# Altium footprint library con-phoenix-350.PCBLIB: 23 footprints (part 1 of 2)
Each footprint in its own frame and in the unit in brackets; x right, y up, seen from the top. Pads: shape width x height; smd on the part's side, far side on the other; paste and mask are expansions set on the pad; w line width, h text height; cw(c..) or ccw(c..) is an arc to the next point about the centre after c.
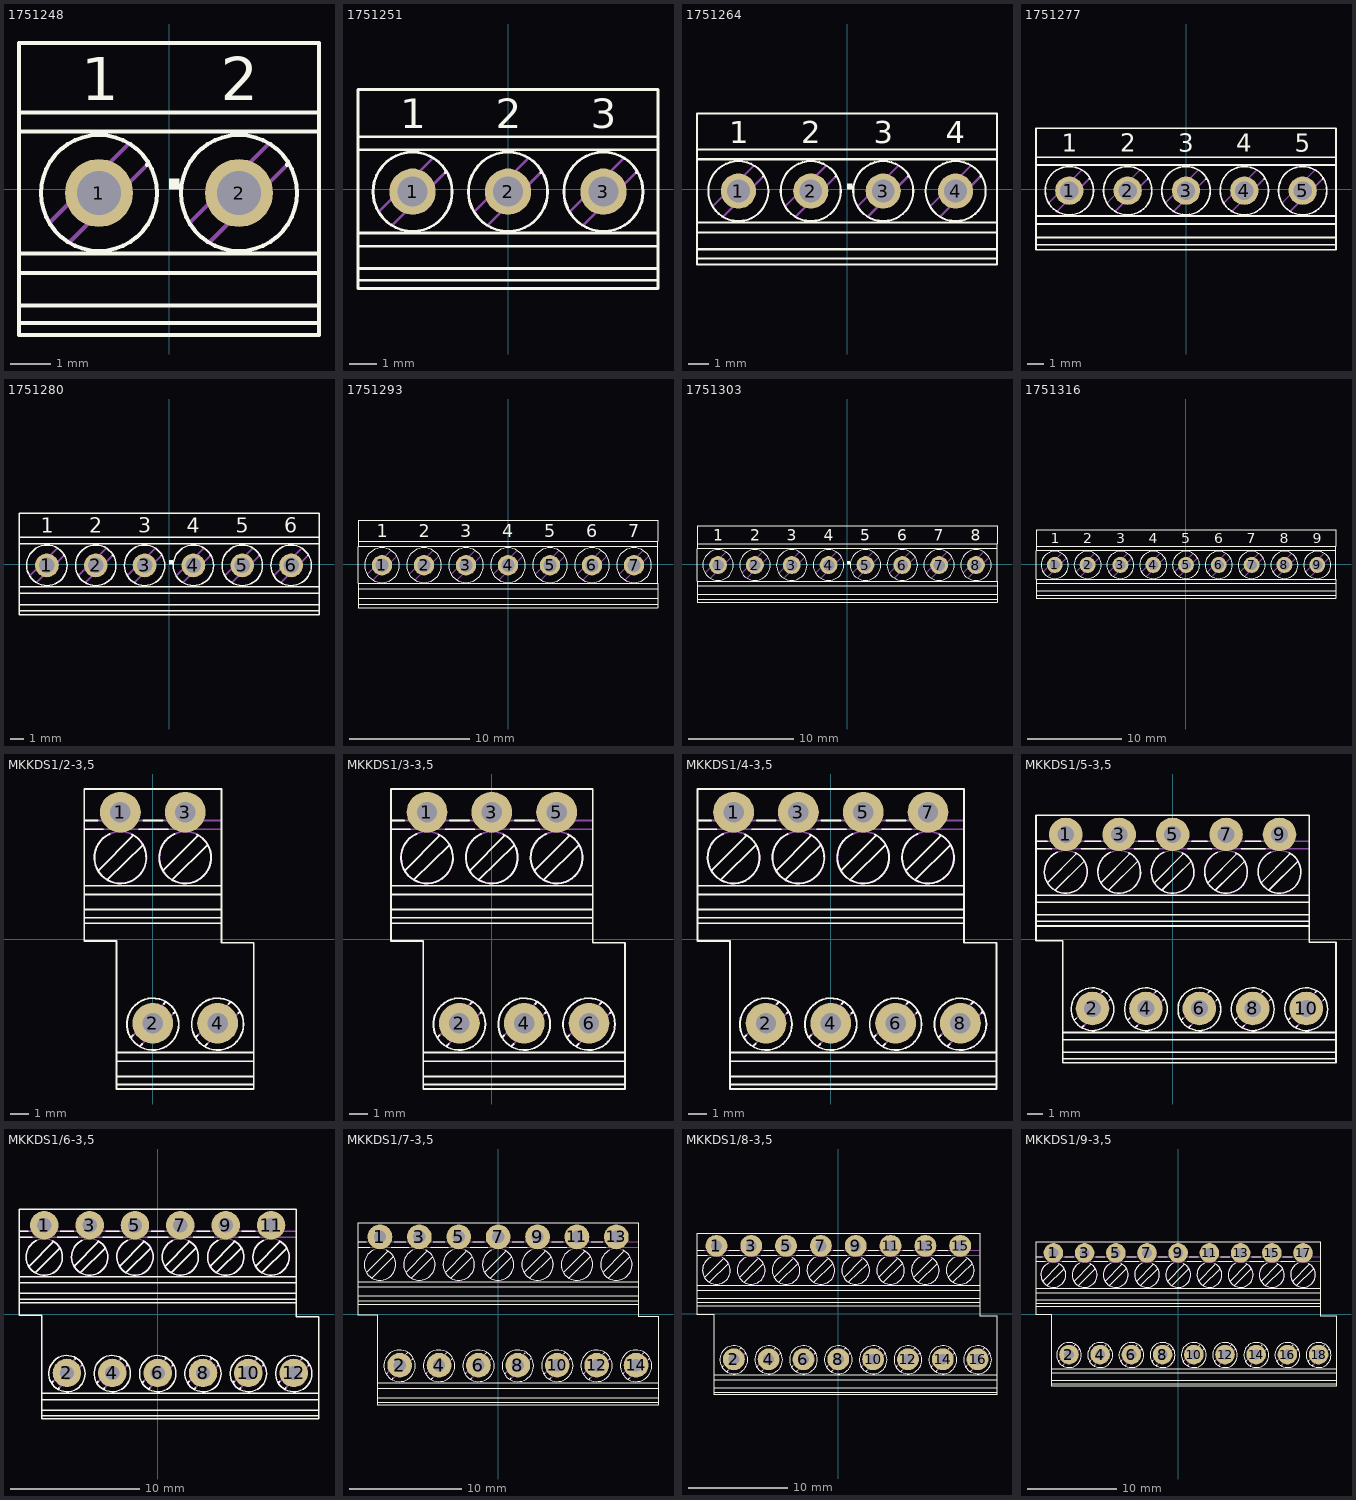
[diagram p0: the footprints below, top view; thin cyan lines are the x and y axes]

## 1751248 [mm]
pads (2):
  round 1.7 hole 1.1: 1(-1.75,-0.1) 2(1.75,-0.1)
Top Overlay:
  circle w0.102: c-1.75,-0.1 r1.45
  circle w0.102: c1.75,-0.1 r1.45
  region: 0,0 0.254,0 0.254,0.254 0,0.254
  lines w0.102: -0.55,0.605 -0.544,0.611 ; 2.95,0.605 2.956,0.611 ; -3.75,-3.35 3.75,-3.35 ; -3.75,-3.35 -3.75,-3.65 3.75,-3.65 3.75,-3.35 ; -3.75,-3.35 -3.75,-2.911 ; -3.75,-2.911 -3.75,-2.099 ; -3.75,-2.911 3.75,-2.911 ; -3.75,-2.099 3.75,-2.099 ; -3.75,-2.099 -3.75,-1.616 ; -3.75,-1.616 -3.75,1.437 ; -3.75,-1.616 3.75,-1.616 ; -3.75,1.437 -3.75,1.912 ; -3.75,1.437 3.75,1.437 ; -3.75,1.912 -3.75,3.65 3.75,3.65 3.75,1.912 ; -3.75,1.912 3.75,1.912 ; 3.75,-3.35 3.75,-2.911 ; 3.75,-2.911 3.75,-2.099 ; 3.75,-2.099 3.75,-1.616 ; 3.75,-1.616 3.75,1.437 ; 3.75,1.437 3.75,1.912
  text "1" at -2.2,2.222 h1.08
  text "2" at 1.293,2.222 h1.08
Mechanical 16:
  lines w0.102: -2.956,-0.811 -1.039,1.106 ; -2.461,-1.306 -0.55,0.605 ; 0.544,-0.811 2.461,1.106 ; 1.039,-1.306 2.95,0.605

## 1751251 [mm]
pads (3):
  round 1.7 hole 1.1: 1(-3.5,-0.1) 2(0,-0.1) 3(3.5,-0.1)
Top Overlay:
  circle w0.102: c-3.5,-0.1 r1.45
  circle w0.102: c0,-0.1 r1.45
  circle w0.102: c3.5,-0.1 r1.45
  region: 0,0 0.254,0 0.254,0.254 0,0.254
  lines w0.102: -2.3,0.605 -2.294,0.611 ; 1.2,0.605 1.206,0.611 ; 4.7,0.605 4.706,0.611 ; -5.5,-3.35 5.5,-3.35 ; -5.5,-3.35 -5.5,-3.65 5.5,-3.65 5.5,-3.35 ; -5.5,-3.35 -5.5,-2.911 ; -5.5,-2.911 -5.5,-2.099 ; -5.5,-2.911 5.5,-2.911 ; -5.5,-2.099 5.5,-2.099 ; -5.5,-2.099 -5.5,-1.616 ; -5.5,-1.616 -5.5,1.437 ; -5.5,-1.616 5.5,-1.616 ; -5.5,1.437 -5.5,1.912 ; -5.5,1.437 5.5,1.437 ; -5.5,1.912 -5.5,3.65 5.5,3.65 5.5,1.912 ; -5.5,1.912 5.5,1.912 ; 5.5,-3.35 5.5,-2.911 ; 5.5,-2.911 5.5,-2.099 ; 5.5,-2.099 5.5,-1.616 ; 5.5,-1.616 5.5,1.437 ; 5.5,1.437 5.5,1.912
  text "1" at -3.95,2.222 h1.08
  text "2" at -0.457,2.222 h1.08
  text "3" at 3.035,2.222 h1.08
Mechanical 16:
  lines w0.102: -4.706,-0.811 -2.789,1.106 ; -4.211,-1.306 -2.3,0.605 ; -1.206,-0.811 0.711,1.106 ; -0.711,-1.306 1.2,0.605 ; 2.294,-0.811 4.211,1.106 ; 2.789,-1.306 4.7,0.605

## 1751264 [mm]
pads (4):
  round 1.7 hole 1.1: 1(-5.25,-0.1) 2(-1.75,-0.1) 3(1.75,-0.1) 4(5.25,-0.1)
Top Overlay:
  circle w0.102: c-5.25,-0.1 r1.45
  circle w0.102: c-1.75,-0.1 r1.45
  circle w0.102: c1.75,-0.1 r1.45
  circle w0.102: c5.25,-0.1 r1.45
  region: 0,0 0.254,0 0.254,0.254 0,0.254
  lines w0.102: -4.05,0.605 -4.044,0.611 ; -0.55,0.605 -0.544,0.611 ; 2.95,0.605 2.956,0.611 ; 6.45,0.605 6.456,0.611 ; -7.25,-3.35 7.25,-3.35 ; -7.25,-3.35 -7.25,-3.65 7.25,-3.65 7.25,-3.35 ; -7.25,-3.35 -7.25,-2.911 ; -7.25,-2.911 -7.25,-2.099 ; -7.25,-2.911 7.25,-2.911 ; -7.25,-2.099 7.25,-2.099 ; -7.25,-2.099 -7.25,-1.616 ; -7.25,-1.616 -7.25,1.437 ; -7.25,-1.616 7.25,-1.616 ; -7.25,1.437 -7.25,1.912 ; -7.25,1.437 7.25,1.437 ; -7.25,1.912 -7.25,3.65 7.25,3.65 7.25,1.912 ; -7.25,1.912 7.25,1.912 ; 7.25,-3.35 7.25,-2.911 ; 7.25,-2.911 7.25,-2.099 ; 7.25,-2.099 7.25,-1.616 ; 7.25,-1.616 7.25,1.437 ; 7.25,1.437 7.25,1.912
  text "1" at -5.7,2.222 h1.08
  text "2" at -2.208,2.222 h1.08
  text "3" at 1.285,2.222 h1.08
  text "4" at 4.777,2.222 h1.08
Mechanical 16:
  lines w0.102: -6.456,-0.811 -4.539,1.106 ; -5.961,-1.306 -4.05,0.605 ; -2.956,-0.811 -1.039,1.106 ; -2.461,-1.306 -0.55,0.605 ; 0.544,-0.811 2.461,1.106 ; 1.039,-1.306 2.95,0.605 ; 4.044,-0.811 5.961,1.106 ; 4.539,-1.306 6.45,0.605

## 1751277 [mm]
pads (5):
  round 1.7 hole 1.1: 1(-7,-0.1) 2(-3.5,-0.1) 3(0,-0.1) 4(3.5,-0.1) 5(7,-0.1)
Top Overlay:
  circle w0.102: c-7,-0.1 r1.45
  circle w0.102: c-3.5,-0.1 r1.45
  circle w0.102: c0,-0.1 r1.45
  circle w0.102: c3.5,-0.1 r1.45
  circle w0.102: c7,-0.1 r1.45
  region: 0,0 0.254,0 0.254,0.254 0,0.254
  lines w0.102: -5.8,0.605 -5.794,0.611 ; -2.3,0.605 -2.294,0.611 ; 1.2,0.605 1.206,0.611 ; 4.7,0.605 4.706,0.611 ; 8.2,0.605 8.206,0.611 ; -9,-3.35 9,-3.35 ; -9,-3.35 -9,-3.65 9,-3.65 9,-3.35 ; -9,-3.35 -9,-2.911 ; -9,-2.911 -9,-2.099 ; -9,-2.911 9,-2.911 ; -9,-2.099 9,-2.099 ; -9,-2.099 -9,-1.616 ; -9,-1.616 -9,1.437 ; -9,-1.616 9,-1.616 ; -9,1.437 -9,1.912 ; -9,1.437 9,1.437 ; -9,1.912 -9,3.65 9,3.65 9,1.912 ; -9,1.912 9,1.912 ; 9,-3.35 9,-2.911 ; 9,-2.911 9,-2.099 ; 9,-2.099 9,-1.616 ; 9,-1.616 9,1.437 ; 9,1.437 9,1.912
  text "1" at -7.45,2.222 h1.08
  text "2" at -3.958,2.222 h1.08
  text "3" at -0.465,2.222 h1.08
  text "4" at 3.027,2.222 h1.08
  text "5" at 6.52,2.222 h1.08
Mechanical 16:
  lines w0.102: -8.206,-0.811 -6.289,1.106 ; -7.711,-1.306 -5.8,0.605 ; -4.706,-0.811 -2.789,1.106 ; -4.211,-1.306 -2.3,0.605 ; -1.206,-0.811 0.711,1.106 ; -0.711,-1.306 1.2,0.605 ; 2.294,-0.811 4.211,1.106 ; 2.789,-1.306 4.7,0.605 ; 5.794,-0.811 7.711,1.106 ; 6.289,-1.306 8.2,0.605

## 1751280 [mm]
pads (6):
  round 1.7 hole 1.1: 1(-8.75,-0.1) 2(-5.25,-0.1) 3(-1.75,-0.1) 4(1.75,-0.1) 5(5.25,-0.1) 6(8.75,-0.1)
Top Overlay:
  circle w0.102: c-8.75,-0.1 r1.45
  circle w0.102: c-5.25,-0.1 r1.45
  circle w0.102: c-1.75,-0.1 r1.45
  circle w0.102: c1.75,-0.1 r1.45
  circle w0.102: c5.25,-0.1 r1.45
  circle w0.102: c8.75,-0.1 r1.45
  region: 0,0 0.254,0 0.254,0.254 0,0.254
  lines w0.102: -7.55,0.605 -7.544,0.611 ; -4.05,0.605 -4.044,0.611 ; -0.55,0.605 -0.544,0.611 ; 2.95,0.605 2.956,0.611 ; 6.45,0.605 6.456,0.611 ; 9.95,0.605 9.956,0.611 ; -10.75,-3.35 10.75,-3.35 ; -10.75,-3.35 -10.75,-3.65 10.75,-3.65 10.75,-3.35 ; -10.75,-3.35 -10.75,-2.911 ; -10.75,-2.911 -10.75,-2.099 ; -10.75,-2.911 10.75,-2.911 ; -10.75,-2.099 10.75,-2.099 ; -10.75,-2.099 -10.75,-1.616 ; -10.75,-1.616 -10.75,1.437 ; -10.75,-1.616 10.75,-1.616 ; -10.75,1.437 -10.75,1.912 ; -10.75,1.437 10.75,1.437 ; -10.75,1.912 -10.75,3.65 10.75,3.65 10.75,1.912 ; -10.75,1.912 10.75,1.912 ; 10.75,-3.35 10.75,-2.911 ; 10.75,-2.911 10.75,-2.099 ; 10.75,-2.099 10.75,-1.616 ; 10.75,-1.616 10.75,1.437 ; 10.75,1.437 10.75,1.912
  text "1" at -9.2,2.222 h1.08
  text "2" at -5.707,2.222 h1.08
  text "3" at -2.215,2.222 h1.08
  text "4" at 1.278,2.222 h1.08
  text "5" at 4.77,2.222 h1.08
  text "6" at 8.263,2.222 h1.08
Mechanical 16:
  lines w0.102: -9.956,-0.811 -8.039,1.106 ; -9.461,-1.306 -7.55,0.605 ; -6.456,-0.811 -4.539,1.106 ; -5.961,-1.306 -4.05,0.605 ; -2.956,-0.811 -1.039,1.106 ; -2.461,-1.306 -0.55,0.605 ; 0.544,-0.811 2.461,1.106 ; 1.039,-1.306 2.95,0.605 ; 4.044,-0.811 5.961,1.106 ; 4.539,-1.306 6.45,0.605 ; 7.544,-0.811 9.461,1.106 ; 8.039,-1.306 9.95,0.605

## 1751293 [mm]
pads (7):
  round 1.7 hole 1.1: 1(-10.5,-0.1) 2(-7,-0.1) 3(-3.5,-0.1) 4(0,-0.1) 5(3.5,-0.1) 6(7,-0.1) 7(10.5,-0.1)
Top Overlay:
  circle w0.102: c-10.5,-0.1 r1.45
  circle w0.102: c-7,-0.1 r1.45
  circle w0.102: c-3.5,-0.1 r1.45
  circle w0.102: c0,-0.1 r1.45
  circle w0.102: c3.5,-0.1 r1.45
  circle w0.102: c7,-0.1 r1.45
  circle w0.102: c10.5,-0.1 r1.45
  region: 0,0 0.254,0 0.254,0.254 0,0.254
  lines w0.102: -9.3,0.605 -9.294,0.611 ; -5.8,0.605 -5.794,0.611 ; -2.3,0.605 -2.294,0.611 ; 1.2,0.605 1.206,0.611 ; 4.7,0.605 4.706,0.611 ; 8.2,0.605 8.206,0.611 ; 11.7,0.605 11.706,0.611 ; -12.5,-3.35 12.5,-3.35 ; -12.5,-3.35 -12.5,-3.65 12.5,-3.65 12.5,-3.35 ; -12.5,-3.35 -12.5,-2.911 ; -12.5,-2.911 -12.5,-2.099 ; -12.5,-2.911 12.5,-2.911 ; -12.5,-2.099 12.5,-2.099 ; -12.5,-2.099 -12.5,-1.616 ; -12.5,-1.616 -12.5,1.437 ; -12.5,-1.616 12.5,-1.616 ; -12.5,1.437 -12.5,1.912 ; -12.5,1.437 12.5,1.437 ; -12.5,1.912 -12.5,3.65 12.5,3.65 12.5,1.912 ; -12.5,1.912 12.5,1.912 ; 12.5,-3.35 12.5,-2.911 ; 12.5,-2.911 12.5,-2.099 ; 12.5,-2.099 12.5,-1.616 ; 12.5,-1.616 12.5,1.437 ; 12.5,1.437 12.5,1.912
  text "1" at -10.95,2.222 h1.08
  text "2" at -7.457,2.222 h1.08
  text "3" at -3.965,2.222 h1.08
  text "4" at -0.472,2.222 h1.08
  text "5" at 3.02,2.222 h1.08
  text "6" at 6.513,2.222 h1.08
  text "7" at 10.005,2.222 h1.08
Mechanical 16:
  lines w0.102: -11.706,-0.811 -9.789,1.106 ; -11.211,-1.306 -9.3,0.605 ; -8.206,-0.811 -6.289,1.106 ; -7.711,-1.306 -5.8,0.605 ; -4.706,-0.811 -2.789,1.106 ; -4.211,-1.306 -2.3,0.605 ; -1.206,-0.811 0.711,1.106 ; -0.711,-1.306 1.2,0.605 ; 2.294,-0.811 4.211,1.106 ; 2.789,-1.306 4.7,0.605 ; 5.794,-0.811 7.711,1.106 ; 6.289,-1.306 8.2,0.605 ; 9.294,-0.811 11.211,1.106 ; 9.789,-1.306 11.7,0.605

## 1751303 [mm]
pads (8):
  round 1.7 hole 1.1: 1(-12.25,-0.1) 2(-8.75,-0.1) 3(-5.25,-0.1) 4(-1.75,-0.1) 5(1.75,-0.1) 6(5.25,-0.1) 7(8.75,-0.1) 8(12.25,-0.1)
Top Overlay:
  circle w0.102: c-12.25,-0.1 r1.45
  circle w0.102: c-8.75,-0.1 r1.45
  circle w0.102: c-5.25,-0.1 r1.45
  circle w0.102: c-1.75,-0.1 r1.45
  circle w0.102: c1.75,-0.1 r1.45
  circle w0.102: c5.25,-0.1 r1.45
  circle w0.102: c8.75,-0.1 r1.45
  circle w0.102: c12.25,-0.1 r1.45
  region: 0,0 0.254,0 0.254,0.254 0,0.254
  lines w0.102: -11.05,0.605 -11.044,0.611 ; -7.55,0.605 -7.544,0.611 ; -4.05,0.605 -4.044,0.611 ; -0.55,0.605 -0.544,0.611 ; 2.95,0.605 2.956,0.611 ; 6.45,0.605 6.456,0.611 ; 9.95,0.605 9.956,0.611 ; 13.45,0.605 13.456,0.611 ; -14.25,-3.35 14.25,-3.35 ; -14.25,-3.35 -14.25,-3.65 14.25,-3.65 14.25,-3.35 ; -14.25,-3.35 -14.25,-2.911 ; -14.25,-2.911 -14.25,-2.099 ; -14.25,-2.911 14.25,-2.911 ; -14.25,-2.099 14.25,-2.099 ; -14.25,-2.099 -14.25,-1.616 ; -14.25,-1.616 -14.25,1.437 ; -14.25,-1.616 14.25,-1.616 ; -14.25,1.437 -14.25,1.912 ; -14.25,1.437 14.25,1.437 ; -14.25,1.912 -14.25,3.65 14.25,3.65 14.25,1.912 ; -14.25,1.912 14.25,1.912 ; 14.25,-3.35 14.25,-2.911 ; 14.25,-2.911 14.25,-2.099 ; 14.25,-2.099 14.25,-1.616 ; 14.25,-1.616 14.25,1.437 ; 14.25,1.437 14.25,1.912
  text "1" at -12.7,2.222 h1.08
  text "2" at -9.207,2.222 h1.08
  text "3" at -5.715,2.222 h1.08
  text "4" at -2.222,2.222 h1.08
  text "5" at 1.27,2.222 h1.08
  text "6" at 4.763,2.222 h1.08
  text "7" at 8.255,2.222 h1.08
  text "8" at 11.747,2.222 h1.08
Mechanical 16:
  lines w0.102: -13.456,-0.811 -11.539,1.106 ; -12.961,-1.306 -11.05,0.605 ; -9.956,-0.811 -8.039,1.106 ; -9.461,-1.306 -7.55,0.605 ; -6.456,-0.811 -4.539,1.106 ; -5.961,-1.306 -4.05,0.605 ; -2.956,-0.811 -1.039,1.106 ; -2.461,-1.306 -0.55,0.605 ; 0.544,-0.811 2.461,1.106 ; 1.039,-1.306 2.95,0.605 ; 4.044,-0.811 5.961,1.106 ; 4.539,-1.306 6.45,0.605 ; 7.544,-0.811 9.461,1.106 ; 8.039,-1.306 9.95,0.605 ; 11.044,-0.811 12.961,1.106 ; 11.539,-1.306 13.45,0.605

## 1751316 [mm]
pads (9):
  round 1.7 hole 1.1: 1(-13.973,-0.1) 2(-10.472,-0.1) 3(-6.973,-0.1) 4(-3.472,-0.1) 5(0.027,-0.1) 6(3.528,-0.1) 7(7.027,-0.1) 8(10.528,-0.1) 9(14.027,-0.1)
Top Overlay:
  circle w0.102: c-13.973,-0.1 r1.45
  circle w0.102: c-10.472,-0.1 r1.45
  circle w0.102: c-6.973,-0.1 r1.45
  circle w0.102: c-3.472,-0.1 r1.45
  circle w0.102: c0.027,-0.1 r1.45
  circle w0.102: c3.528,-0.1 r1.45
  circle w0.102: c7.027,-0.1 r1.45
  circle w0.102: c10.528,-0.1 r1.45
  circle w0.102: c14.027,-0.1 r1.45
  region: 0,0 0.254,0 0.254,0.254 0,0.254
  lines w0.102: -12.772,0.605 -12.767,0.611 ; -9.273,0.605 -9.266,0.611 ; -5.772,0.605 -5.767,0.611 ; -2.273,0.605 -2.266,0.611 ; 1.228,0.605 1.233,0.611 ; 4.727,0.605 4.734,0.611 ; 8.228,0.605 8.233,0.611 ; 11.727,0.605 11.734,0.611 ; 15.228,0.605 15.233,0.611 ; -15.973,-3.35 16.027,-3.35 ; -15.973,-3.35 -15.973,-3.65 16.027,-3.65 16.027,-3.35 ; -15.973,-3.35 -15.973,-2.911 ; -15.973,-2.911 -15.973,-2.099 ; -15.973,-2.911 16.027,-2.911 ; -15.973,-2.099 16.027,-2.099 ; -15.973,-2.099 -15.973,-1.616 ; -15.973,-1.616 -15.973,1.437 ; -15.973,-1.616 16.027,-1.616 ; -15.973,1.437 -15.973,1.912 ; -15.973,1.437 16.027,1.437 ; -15.973,1.912 -15.973,3.65 16.027,3.65 16.027,1.912 ; -15.973,1.912 16.027,1.912 ; 16.027,-3.35 16.027,-2.911 ; 16.027,-2.911 16.027,-2.099 ; 16.027,-2.099 16.027,-1.616 ; 16.027,-1.616 16.027,1.437 ; 16.027,1.437 16.027,1.912
  text "1" at -14.423,2.222 h1.08
  text "2" at -10.93,2.222 h1.08
  text "3" at -7.438,2.222 h1.08
  text "4" at -3.945,2.222 h1.08
  text "5" at -0.453,2.222 h1.08
  text "6" at 3.04,2.222 h1.08
  text "7" at 6.533,2.222 h1.08
  text "8" at 10.025,2.222 h1.08
  text "9" at 13.525,2.222 h1.08
Mechanical 16:
  lines w0.102: -15.179,-0.811 -13.262,1.106 ; -14.683,-1.306 -12.772,0.605 ; -11.678,-0.811 -9.761,1.106 ; -11.184,-1.306 -9.273,0.605 ; -8.179,-0.811 -6.262,1.106 ; -7.683,-1.306 -5.772,0.605 ; -4.678,-0.811 -2.761,1.106 ; -4.183,-1.306 -2.273,0.605 ; -1.179,-0.811 0.738,1.106 ; -0.684,-1.306 1.228,0.605 ; 2.322,-0.811 4.238,1.106 ; 2.817,-1.306 4.727,0.605 ; 5.821,-0.811 7.739,1.106 ; 6.316,-1.306 8.228,0.605 ; 9.322,-0.811 11.238,1.106 ; 9.817,-1.306 11.727,0.605 ; 12.821,-0.811 14.739,1.106 ; 13.316,-1.306 15.228,0.605

## MKKDS1/2-3,5 [mm]
pads (4):
  round 2.2 hole 1.1: 1(-1.75,6.85) 2(0,-4.55) 3(1.75,6.85) 4(3.5,-4.55)
Top Overlay:
  circle w0.102: c0,-4.6 r1.401
  circle w0.102: c3.5,-4.6 r1.401
  lines w0.102: -3.675,5.925 -2.675,5.925 ; -3.675,6.4 -2.975,6.4 ; -3.65,0.85 3.675,0.85 ; -3.65,1.15 3.675,1.15 ; -3.65,1.6 3.675,1.6 ; -3.65,2.4 3.675,2.4 ; -3.65,2.875 3.675,2.875 ; -2.925,3.7 -1.075,5.575 ; -2.425,3.225 -0.55,5.075 ; -2.325,5.675 ccw(c-1.752,4.398) -1.125,5.65 ; -1.9,-7.85 5.425,-7.85 ; -1.9,-7.425 5.425,-7.425 ; -1.9,-6.6 5.425,-6.6 ; -1.9,-6.125 5.425,-6.125 ; -1.175,-5.3 -1.075,-5.2 ; -0.75,5.925 0.825,5.925 ; -0.675,-5.775 -0.575,-5.675 ; -0.5,6.4 0.525,6.4 ; 0.575,3.7 2.425,5.575 ; 0.6,-3.5 0.675,-3.425 ; 1.075,3.225 2.95,5.075 ; 1.125,-4 1.2,-3.925 ; 1.175,5.675 ccw(c1.748,4.399) 2.375,5.65 ; 2.325,-5.3 2.425,-5.2 ; 2.825,-5.775 2.925,-5.675 ; 4.1,-3.5 4.175,-3.425 ; 4.625,-4 4.7,-3.925 ; -3.7,-0.1 -3.7,8.1 3.7,8.1 3.7,-0.2 5.45,-0.2 5.45,-8.1 -1.95,-8.1 -1.95,-0.1 -3.7,-0.1
Mechanical 16:
  circle w0.102: c-1.75,4.4 r1.401
  circle w0.102: c1.75,4.4 r1.401
  lines w0.102: -3.675,5.925 3.65,5.925 ; -3.675,6.4 3.65,6.4 ; -1.175,-5.3 0.675,-3.425 ; -0.675,-5.775 1.2,-3.925 ; 2.325,-5.3 4.175,-3.425 ; 2.825,-5.775 4.7,-3.925

## MKKDS1/3-3,5 [mm]
pads (6):
  round 2.2 hole 1.1: 1(-3.5,6.85) 2(-1.75,-4.55) 3(0,6.85) 4(1.75,-4.55) 5(3.5,6.85) 6(5.25,-4.55)
Top Overlay:
  circle w0.102: c-1.75,-4.6 r1.401
  circle w0.102: c1.75,-4.6 r1.401
  circle w0.102: c5.25,-4.6 r1.401
  lines w0.102: -5.425,5.925 -4.425,5.925 ; -5.425,6.4 -4.725,6.4 ; -5.4,0.85 5.425,0.85 ; -5.4,1.15 5.425,1.15 ; -5.4,1.6 5.425,1.6 ; -5.4,2.4 5.425,2.4 ; -5.4,2.875 5.425,2.875 ; -4.675,3.7 -2.825,5.575 ; -4.175,3.225 -2.3,5.075 ; -4.075,5.675 ccw(c-3.501,4.399) -2.875,5.65 ; -3.65,-7.85 7.175,-7.85 ; -3.65,-7.425 7.175,-7.425 ; -3.65,-6.6 7.175,-6.6 ; -3.65,-6.125 7.175,-6.125 ; -2.925,-5.3 -2.825,-5.2 ; -2.5,5.925 -0.925,5.925 ; -2.425,-5.775 -2.325,-5.675 ; -2.25,6.4 -1.225,6.4 ; -1.175,3.7 0.675,5.575 ; -1.15,-3.5 -1.075,-3.425 ; -0.675,3.225 1.2,5.075 ; -0.625,-4 -0.55,-3.925 ; -0.575,5.675 ccw(c-0.001,4.398) 0.625,5.65 ; 0.575,-5.3 0.675,-5.2 ; 1,5.925 2.575,5.925 ; 1.075,-5.775 1.175,-5.675 ; 1.25,6.4 2.275,6.4 ; 2.325,3.7 4.175,5.575 ; 2.35,-3.5 2.425,-3.425 ; 2.825,3.225 4.7,5.075 ; 2.875,-4 2.95,-3.925 ; 2.925,5.675 ccw(c3.499,4.399) 4.125,5.65 ; 4.075,-5.3 4.175,-5.2 ; 4.575,-5.775 4.675,-5.675 ; 5.85,-3.5 5.925,-3.425 ; 6.375,-4 6.45,-3.925 ; -5.45,-0.1 -5.45,8.1 5.45,8.1 5.45,-0.2 7.2,-0.2 7.2,-8.1 -3.7,-8.1 -3.7,-0.1 -5.45,-0.1
Mechanical 16:
  circle w0.102: c-3.5,4.4 r1.401
  circle w0.102: c0,4.4 r1.401
  circle w0.102: c3.5,4.4 r1.401
  lines w0.102: -5.425,5.925 5.4,5.925 ; -5.425,6.4 5.4,6.4 ; -2.925,-5.3 -1.075,-3.425 ; -2.425,-5.775 -0.55,-3.925 ; 0.575,-5.3 2.425,-3.425 ; 1.075,-5.775 2.95,-3.925 ; 4.075,-5.3 5.925,-3.425 ; 4.575,-5.775 6.45,-3.925

## MKKDS1/4-3,5 [mm]
pads (8):
  round 2.2 hole 1.1: 1(-5.25,6.85) 2(-3.5,-4.55) 3(-1.75,6.85) 4(0,-4.55) 5(1.75,6.85) 6(3.5,-4.55) 7(5.25,6.85) 8(7,-4.55)
Top Overlay:
  circle w0.102: c-3.5,-4.6 r1.401
  circle w0.102: c0,-4.6 r1.401
  circle w0.102: c3.5,-4.6 r1.401
  circle w0.102: c7,-4.6 r1.401
  lines w0.102: -7.175,5.925 -6.175,5.925 ; -7.175,6.4 -6.475,6.4 ; -7.15,0.85 7.175,0.85 ; -7.15,1.15 7.175,1.15 ; -7.15,1.6 7.175,1.6 ; -7.15,2.4 7.175,2.4 ; -7.15,2.875 7.175,2.875 ; -6.425,3.7 -4.575,5.575 ; -5.925,3.225 -4.05,5.075 ; -5.825,5.675 ccw(c-5.252,4.399) -4.625,5.65 ; -5.4,-7.85 8.925,-7.85 ; -5.4,-7.425 8.925,-7.425 ; -5.4,-6.6 8.925,-6.6 ; -5.4,-6.125 8.925,-6.125 ; -4.675,-5.3 -4.575,-5.2 ; -4.25,5.925 -2.675,5.925 ; -4.175,-5.775 -4.075,-5.675 ; -4,6.4 -2.975,6.4 ; -2.925,3.7 -1.075,5.575 ; -2.9,-3.5 -2.825,-3.425 ; -2.425,3.225 -0.55,5.075 ; -2.375,-4 -2.3,-3.925 ; -2.325,5.675 ccw(c-1.752,4.398) -1.125,5.65 ; -1.175,-5.3 -1.075,-5.2 ; -0.75,5.925 0.825,5.925 ; -0.675,-5.775 -0.575,-5.675 ; -0.5,6.4 0.525,6.4 ; 0.575,3.7 2.425,5.575 ; 0.6,-3.5 0.675,-3.425 ; 1.075,3.225 2.95,5.075 ; 1.125,-4 1.2,-3.925 ; 1.175,5.675 ccw(c1.748,4.399) 2.375,5.65 ; 2.325,-5.3 2.425,-5.2 ; 2.75,5.925 4.325,5.925 ; 2.825,-5.775 2.925,-5.675 ; 3,6.4 4.025,6.4 ; 4.075,3.7 5.925,5.575 ; 4.1,-3.5 4.175,-3.425 ; 4.575,3.225 6.45,5.075 ; 4.625,-4 4.7,-3.925 ; 4.675,5.675 ccw(c5.249,4.399) 5.875,5.65 ; 5.825,-5.3 5.925,-5.2 ; 6.325,-5.775 6.425,-5.675 ; 7.6,-3.5 7.675,-3.425 ; 8.125,-4 8.2,-3.925 ; -7.2,-0.1 -7.2,8.1 7.2,8.1 7.2,-0.2 8.95,-0.2 8.95,-8.1 -5.45,-8.1 -5.45,-0.1 -7.2,-0.1
Mechanical 16:
  circle w0.102: c-5.25,4.4 r1.401
  circle w0.102: c-1.75,4.4 r1.401
  circle w0.102: c1.75,4.4 r1.401
  circle w0.102: c5.25,4.4 r1.401
  lines w0.102: -7.175,5.925 7.15,5.925 ; -7.175,6.4 7.15,6.4 ; -4.675,-5.3 -2.825,-3.425 ; -4.175,-5.775 -2.3,-3.925 ; -1.175,-5.3 0.675,-3.425 ; -0.675,-5.775 1.2,-3.925 ; 2.325,-5.3 4.175,-3.425 ; 2.825,-5.775 4.7,-3.925 ; 5.825,-5.3 7.675,-3.425 ; 6.325,-5.775 8.2,-3.925

## MKKDS1/5-3,5 [mm]
pads (10):
  round 2.2 hole 1.1: 1(-7,6.85) 2(-5.25,-4.55) 3(-3.5,6.85) 4(-1.75,-4.55) 5(0,6.85) 6(1.75,-4.55) 7(3.5,6.85) 8(5.25,-4.55) 9(7,6.85) 10(8.75,-4.55)
Top Overlay:
  circle w0.102: c-5.25,-4.6 r1.401
  circle w0.102: c-1.75,-4.6 r1.401
  circle w0.102: c1.75,-4.6 r1.401
  circle w0.102: c5.25,-4.6 r1.401
  circle w0.102: c8.75,-4.6 r1.401
  lines w0.102: -8.925,5.925 -7.925,5.925 ; -8.925,6.4 -8.225,6.4 ; -8.9,0.85 8.925,0.85 ; -8.9,1.15 8.925,1.15 ; -8.9,1.6 8.925,1.6 ; -8.9,2.4 8.925,2.4 ; -8.9,2.875 8.925,2.875 ; -8.175,3.7 -6.325,5.575 ; -7.675,3.225 -5.8,5.075 ; -7.575,5.675 ccw(c-7.001,4.398) -6.375,5.65 ; -7.15,-7.85 10.675,-7.85 ; -7.15,-7.425 10.675,-7.425 ; -7.15,-6.6 10.675,-6.6 ; -7.15,-6.125 10.675,-6.125 ; -6.425,-5.3 -6.325,-5.2 ; -6,5.925 -4.425,5.925 ; -5.925,-5.775 -5.825,-5.675 ; -5.75,6.4 -4.725,6.4 ; -4.675,3.7 -2.825,5.575 ; -4.65,-3.5 -4.575,-3.425 ; -4.175,3.225 -2.3,5.075 ; -4.125,-4 -4.05,-3.925 ; -4.075,5.675 ccw(c-3.501,4.399) -2.875,5.65 ; -2.925,-5.3 -2.825,-5.2 ; -2.5,5.925 -0.925,5.925 ; -2.425,-5.775 -2.325,-5.675 ; -2.25,6.4 -1.225,6.4 ; -1.175,3.7 0.675,5.575 ; -1.15,-3.5 -1.075,-3.425 ; -0.675,3.225 1.2,5.075 ; -0.625,-4 -0.55,-3.925 ; -0.575,5.675 ccw(c-0.001,4.398) 0.625,5.65 ; 0.575,-5.3 0.675,-5.2 ; 1,5.925 2.575,5.925 ; 1.075,-5.775 1.175,-5.675 ; 1.25,6.4 2.275,6.4 ; 2.325,3.7 4.175,5.575 ; 2.35,-3.5 2.425,-3.425 ; 2.825,3.225 4.7,5.075 ; 2.875,-4 2.95,-3.925 ; 2.925,5.675 ccw(c3.499,4.399) 4.125,5.65 ; 4.075,-5.3 4.175,-5.2 ; 4.5,5.925 6.075,5.925 ; 4.575,-5.775 4.675,-5.675 ; 4.75,6.4 5.775,6.4 ; 5.825,3.7 7.675,5.575 ; 5.85,-3.5 5.925,-3.425 ; 6.325,3.225 8.2,5.075 ; 6.375,-4 6.45,-3.925 ; 6.425,5.675 ccw(c6.999,4.398) 7.625,5.65 ; 7.575,-5.3 7.675,-5.2 ; 8.075,-5.775 8.175,-5.675 ; 9.35,-3.5 9.425,-3.425 ; 9.875,-4 9.95,-3.925 ; -8.95,-0.1 -8.95,8.1 8.95,8.1 8.95,-0.2 10.7,-0.2 10.7,-8.1 -7.2,-8.1 -7.2,-0.1 -8.95,-0.1
Mechanical 16:
  circle w0.102: c-7,4.4 r1.401
  circle w0.102: c-3.5,4.4 r1.401
  circle w0.102: c0,4.4 r1.401
  circle w0.102: c3.5,4.4 r1.401
  circle w0.102: c7,4.4 r1.401
  lines w0.102: -8.925,5.925 8.9,5.925 ; -8.925,6.4 8.9,6.4 ; -6.425,-5.3 -4.575,-3.425 ; -5.925,-5.775 -4.05,-3.925 ; -2.925,-5.3 -1.075,-3.425 ; -2.425,-5.775 -0.55,-3.925 ; 0.575,-5.3 2.425,-3.425 ; 1.075,-5.775 2.95,-3.925 ; 4.075,-5.3 5.925,-3.425 ; 4.575,-5.775 6.45,-3.925 ; 7.575,-5.3 9.425,-3.425 ; 8.075,-5.775 9.95,-3.925

## MKKDS1/6-3,5 [mm]
pads (12):
  round 2.2 hole 1.1: 1(-8.75,6.85) 2(-7,-4.55) 3(-5.25,6.85) 4(-3.5,-4.55) 5(-1.75,6.85) 6(0,-4.55) 7(1.75,6.85) 8(3.5,-4.55) 9(5.25,6.85) 10(7,-4.55) 11(8.75,6.85) 12(10.5,-4.55)
Top Overlay:
  circle w0.102: c-7,-4.6 r1.401
  circle w0.102: c-3.5,-4.6 r1.401
  circle w0.102: c0,-4.6 r1.401
  circle w0.102: c3.5,-4.6 r1.401
  circle w0.102: c7,-4.6 r1.401
  circle w0.102: c10.5,-4.6 r1.401
  lines w0.102: -10.675,5.925 -9.675,5.925 ; -10.675,6.4 -9.975,6.4 ; -10.65,0.85 10.675,0.85 ; -10.65,1.15 10.675,1.15 ; -10.65,1.6 10.675,1.6 ; -10.65,2.4 10.675,2.4 ; -10.65,2.875 10.675,2.875 ; -9.925,3.7 -8.075,5.575 ; -9.425,3.225 -7.55,5.075 ; -9.325,5.675 ccw(c-8.752,4.398) -8.125,5.65 ; -8.9,-7.85 12.425,-7.85 ; -8.9,-7.425 12.425,-7.425 ; -8.9,-6.6 12.425,-6.6 ; -8.9,-6.125 12.425,-6.125 ; -8.175,-5.3 -8.075,-5.2 ; -7.75,5.925 -6.175,5.925 ; -7.675,-5.775 -7.575,-5.675 ; -7.5,6.4 -6.475,6.4 ; -6.425,3.7 -4.575,5.575 ; -6.4,-3.5 -6.325,-3.425 ; -5.925,3.225 -4.05,5.075 ; -5.875,-4 -5.8,-3.925 ; -5.825,5.675 ccw(c-5.252,4.399) -4.625,5.65 ; -4.675,-5.3 -4.575,-5.2 ; -4.25,5.925 -2.675,5.925 ; -4.175,-5.775 -4.075,-5.675 ; -4,6.4 -2.975,6.4 ; -2.925,3.7 -1.075,5.575 ; -2.9,-3.5 -2.825,-3.425 ; -2.425,3.225 -0.55,5.075 ; -2.375,-4 -2.3,-3.925 ; -2.325,5.675 ccw(c-1.752,4.398) -1.125,5.65 ; -1.175,-5.3 -1.075,-5.2 ; -0.75,5.925 0.825,5.925 ; -0.675,-5.775 -0.575,-5.675 ; -0.5,6.4 0.525,6.4 ; 0.575,3.7 2.425,5.575 ; 0.6,-3.5 0.675,-3.425 ; 1.075,3.225 2.95,5.075 ; 1.125,-4 1.2,-3.925 ; 1.175,5.675 ccw(c1.748,4.399) 2.375,5.65 ; 2.325,-5.3 2.425,-5.2 ; 2.75,5.925 4.325,5.925 ; 2.825,-5.775 2.925,-5.675 ; 3,6.4 4.025,6.4 ; 4.075,3.7 5.925,5.575 ; 4.1,-3.5 4.175,-3.425 ; 4.575,3.225 6.45,5.075 ; 4.625,-4 4.7,-3.925 ; 4.675,5.675 ccw(c5.249,4.399) 5.875,5.65 ; 5.825,-5.3 5.925,-5.2 ; 6.25,5.925 7.825,5.925 ; 6.325,-5.775 6.425,-5.675 ; 6.5,6.4 7.525,6.4 ; 7.575,3.7 9.425,5.575 ; 7.6,-3.5 7.675,-3.425 ; 8.075,3.225 9.95,5.075 ; 8.125,-4 8.2,-3.925 ; 8.175,5.675 ccw(c8.748,4.399) 9.375,5.65 ; 9.325,-5.3 9.425,-5.2 ; 9.825,-5.775 9.925,-5.675 ; 11.1,-3.5 11.175,-3.425 ; 11.625,-4 11.7,-3.925 ; -10.7,-0.1 -10.7,8.1 10.7,8.1 10.7,-0.2 12.45,-0.2 12.45,-8.1 -8.95,-8.1 -8.95,-0.1 -10.7,-0.1
Mechanical 16:
  circle w0.102: c-8.75,4.4 r1.401
  circle w0.102: c-5.25,4.4 r1.401
  circle w0.102: c-1.75,4.4 r1.401
  circle w0.102: c1.75,4.4 r1.401
  circle w0.102: c5.25,4.4 r1.401
  circle w0.102: c8.75,4.4 r1.401
  lines w0.102: -10.675,5.925 10.65,5.925 ; -10.675,6.4 10.65,6.4 ; -8.175,-5.3 -6.325,-3.425 ; -7.675,-5.775 -5.8,-3.925 ; -4.675,-5.3 -2.825,-3.425 ; -4.175,-5.775 -2.3,-3.925 ; -1.175,-5.3 0.675,-3.425 ; -0.675,-5.775 1.2,-3.925 ; 2.325,-5.3 4.175,-3.425 ; 2.825,-5.775 4.7,-3.925 ; 5.825,-5.3 7.675,-3.425 ; 6.325,-5.775 8.2,-3.925 ; 9.325,-5.3 11.175,-3.425 ; 9.825,-5.775 11.7,-3.925

## MKKDS1/7-3,5 [mm]
pads (14):
  round 2.2 hole 1.1: 1(-10.5,6.85) 2(-8.75,-4.55) 3(-7,6.85) 4(-5.25,-4.55) 5(-3.5,6.85) 6(-1.75,-4.55) 7(0,6.85) 8(1.75,-4.55) 9(3.5,6.85) 10(5.25,-4.55) 11(7,6.85) 12(8.75,-4.55) 13(10.5,6.85) 14(12.25,-4.55)
Top Overlay:
  circle w0.102: c-8.75,-4.6 r1.401
  circle w0.102: c-5.25,-4.6 r1.401
  circle w0.102: c-1.75,-4.6 r1.401
  circle w0.102: c1.75,-4.6 r1.401
  circle w0.102: c5.25,-4.6 r1.401
  circle w0.102: c8.75,-4.6 r1.401
  circle w0.102: c12.25,-4.6 r1.401
  lines w0.102: -12.425,5.925 -11.425,5.925 ; -12.425,6.4 -11.725,6.4 ; -12.4,0.85 12.425,0.85 ; -12.4,1.15 12.425,1.15 ; -12.4,1.6 12.425,1.6 ; -12.4,2.4 12.425,2.4 ; -12.4,2.875 12.425,2.875 ; -11.675,3.7 -9.825,5.575 ; -11.175,3.225 -9.3,5.075 ; -11.075,5.675 ccw(c-10.501,4.399) -9.875,5.65 ; -10.65,-7.85 14.175,-7.85 ; -10.65,-7.425 14.175,-7.425 ; -10.65,-6.6 14.175,-6.6 ; -10.65,-6.125 14.175,-6.125 ; -9.925,-5.3 -9.825,-5.2 ; -9.5,5.925 -7.925,5.925 ; -9.425,-5.775 -9.325,-5.675 ; -9.25,6.4 -8.225,6.4 ; -8.175,3.7 -6.325,5.575 ; -8.15,-3.5 -8.075,-3.425 ; -7.675,3.225 -5.8,5.075 ; -7.625,-4 -7.55,-3.925 ; -7.575,5.675 ccw(c-7.001,4.398) -6.375,5.65 ; -6.425,-5.3 -6.325,-5.2 ; -6,5.925 -4.425,5.925 ; -5.925,-5.775 -5.825,-5.675 ; -5.75,6.4 -4.725,6.4 ; -4.675,3.7 -2.825,5.575 ; -4.65,-3.5 -4.575,-3.425 ; -4.175,3.225 -2.3,5.075 ; -4.125,-4 -4.05,-3.925 ; -4.075,5.675 ccw(c-3.501,4.399) -2.875,5.65 ; -2.925,-5.3 -2.825,-5.2 ; -2.5,5.925 -0.925,5.925 ; -2.425,-5.775 -2.325,-5.675 ; -2.25,6.4 -1.225,6.4 ; -1.175,3.7 0.675,5.575 ; -1.15,-3.5 -1.075,-3.425 ; -0.675,3.225 1.2,5.075 ; -0.625,-4 -0.55,-3.925 ; -0.575,5.675 ccw(c-0.001,4.398) 0.625,5.65 ; 0.575,-5.3 0.675,-5.2 ; 1,5.925 2.575,5.925 ; 1.075,-5.775 1.175,-5.675 ; 1.25,6.4 2.275,6.4 ; 2.325,3.7 4.175,5.575 ; 2.35,-3.5 2.425,-3.425 ; 2.825,3.225 4.7,5.075 ; 2.875,-4 2.95,-3.925 ; 2.925,5.675 ccw(c3.499,4.399) 4.125,5.65 ; 4.075,-5.3 4.175,-5.2 ; 4.5,5.925 6.075,5.925 ; 4.575,-5.775 4.675,-5.675 ; 4.75,6.4 5.775,6.4 ; 5.825,3.7 7.675,5.575 ; 5.85,-3.5 5.925,-3.425 ; 6.325,3.225 8.2,5.075 ; 6.375,-4 6.45,-3.925 ; 6.425,5.675 ccw(c6.999,4.398) 7.625,5.65 ; 7.575,-5.3 7.675,-5.2 ; 8,5.925 9.575,5.925 ; 8.075,-5.775 8.175,-5.675 ; 8.25,6.4 9.275,6.4 ; 9.325,3.7 11.175,5.575 ; 9.35,-3.5 9.425,-3.425 ; 9.825,3.225 11.7,5.075 ; 9.875,-4 9.95,-3.925 ; 9.925,5.675 ccw(c10.499,4.399) 11.125,5.65 ; 11.075,-5.3 11.175,-5.2 ; 11.575,-5.775 11.675,-5.675 ; 12.85,-3.5 12.925,-3.425 ; 13.375,-4 13.45,-3.925 ; -12.45,-0.1 -12.45,8.1 12.45,8.1 12.45,-0.2 14.2,-0.2 14.2,-8.1 -10.7,-8.1 -10.7,-0.1 -12.45,-0.1
Mechanical 16:
  circle w0.102: c-10.5,4.4 r1.401
  circle w0.102: c-7,4.4 r1.401
  circle w0.102: c-3.5,4.4 r1.401
  circle w0.102: c0,4.4 r1.401
  circle w0.102: c3.5,4.4 r1.401
  circle w0.102: c7,4.4 r1.401
  circle w0.102: c10.5,4.4 r1.401
  lines w0.102: -12.425,5.925 12.4,5.925 ; -12.425,6.4 12.4,6.4 ; -9.925,-5.3 -8.075,-3.425 ; -9.425,-5.775 -7.55,-3.925 ; -6.425,-5.3 -4.575,-3.425 ; -5.925,-5.775 -4.05,-3.925 ; -2.925,-5.3 -1.075,-3.425 ; -2.425,-5.775 -0.55,-3.925 ; 0.575,-5.3 2.425,-3.425 ; 1.075,-5.775 2.95,-3.925 ; 4.075,-5.3 5.925,-3.425 ; 4.575,-5.775 6.45,-3.925 ; 7.575,-5.3 9.425,-3.425 ; 8.075,-5.775 9.95,-3.925 ; 11.075,-5.3 12.925,-3.425 ; 11.575,-5.775 13.45,-3.925

## MKKDS1/8-3,5 [mm]
pads (16):
  round 2.2 hole 1.1: 1(-12.25,6.85) 2(-10.5,-4.55) 3(-8.75,6.85) 4(-7,-4.55) 5(-5.25,6.85) 6(-3.5,-4.55) 7(-1.75,6.85) 8(0,-4.55) 9(1.75,6.85) 10(3.5,-4.55) 11(5.25,6.85) 12(7,-4.55) 13(8.75,6.85) 14(10.5,-4.55) 15(12.25,6.85) 16(14,-4.55)
Top Overlay:
  circle w0.102: c-10.5,-4.6 r1.401
  circle w0.102: c-7,-4.6 r1.401
  circle w0.102: c-3.5,-4.6 r1.401
  circle w0.102: c0,-4.6 r1.401
  circle w0.102: c3.5,-4.6 r1.401
  circle w0.102: c7,-4.6 r1.401
  circle w0.102: c10.5,-4.6 r1.401
  circle w0.102: c14,-4.6 r1.401
  lines w0.102: -14.175,5.925 -13.175,5.925 ; -14.175,6.4 -13.475,6.4 ; -14.15,0.85 14.175,0.85 ; -14.15,1.15 14.175,1.15 ; -14.15,1.6 14.175,1.6 ; -14.15,2.4 14.175,2.4 ; -14.15,2.875 14.175,2.875 ; -13.425,3.7 -11.575,5.575 ; -12.925,3.225 -11.05,5.075 ; -12.825,5.675 ccw(c-12.252,4.399) -11.625,5.65 ; -12.4,-7.85 15.925,-7.85 ; -12.4,-7.425 15.925,-7.425 ; -12.4,-6.6 15.925,-6.6 ; -12.4,-6.125 15.925,-6.125 ; -11.675,-5.3 -11.575,-5.2 ; -11.25,5.925 -9.675,5.925 ; -11.175,-5.775 -11.075,-5.675 ; -11,6.4 -9.975,6.4 ; -9.925,3.7 -8.075,5.575 ; -9.9,-3.5 -9.825,-3.425 ; -9.425,3.225 -7.55,5.075 ; -9.375,-4 -9.3,-3.925 ; -9.325,5.675 ccw(c-8.752,4.398) -8.125,5.65 ; -8.175,-5.3 -8.075,-5.2 ; -7.75,5.925 -6.175,5.925 ; -7.675,-5.775 -7.575,-5.675 ; -7.5,6.4 -6.475,6.4 ; -6.425,3.7 -4.575,5.575 ; -6.4,-3.5 -6.325,-3.425 ; -5.925,3.225 -4.05,5.075 ; -5.875,-4 -5.8,-3.925 ; -5.825,5.675 ccw(c-5.252,4.399) -4.625,5.65 ; -4.675,-5.3 -4.575,-5.2 ; -4.25,5.925 -2.675,5.925 ; -4.175,-5.775 -4.075,-5.675 ; -4,6.4 -2.975,6.4 ; -2.925,3.7 -1.075,5.575 ; -2.9,-3.5 -2.825,-3.425 ; -2.425,3.225 -0.55,5.075 ; -2.375,-4 -2.3,-3.925 ; -2.325,5.675 ccw(c-1.752,4.398) -1.125,5.65 ; -1.175,-5.3 -1.075,-5.2 ; -0.75,5.925 0.825,5.925 ; -0.675,-5.775 -0.575,-5.675 ; -0.5,6.4 0.525,6.4 ; 0.575,3.7 2.425,5.575 ; 0.6,-3.5 0.675,-3.425 ; 1.075,3.225 2.95,5.075 ; 1.125,-4 1.2,-3.925 ; 1.175,5.675 ccw(c1.748,4.399) 2.375,5.65 ; 2.325,-5.3 2.425,-5.2 ; 2.75,5.925 4.325,5.925 ; 2.825,-5.775 2.925,-5.675 ; 3,6.4 4.025,6.4 ; 4.075,3.7 5.925,5.575 ; 4.1,-3.5 4.175,-3.425 ; 4.575,3.225 6.45,5.075 ; 4.625,-4 4.7,-3.925 ; 4.675,5.675 ccw(c5.249,4.399) 5.875,5.65 ; 5.825,-5.3 5.925,-5.2 ; 6.25,5.925 7.825,5.925 ; 6.325,-5.775 6.425,-5.675 ; 6.5,6.4 7.525,6.4 ; 7.575,3.7 9.425,5.575 ; 7.6,-3.5 7.675,-3.425 ; 8.075,3.225 9.95,5.075 ; 8.125,-4 8.2,-3.925 ; 8.175,5.675 ccw(c8.748,4.399) 9.375,5.65 ; 9.325,-5.3 9.425,-5.2 ; 9.75,5.925 11.325,5.925 ; 9.825,-5.775 9.925,-5.675 ; 10,6.4 11.025,6.4 ; 11.075,3.7 12.925,5.575 ; 11.1,-3.5 11.175,-3.425 ; 11.575,3.225 13.45,5.075 ; 11.625,-4 11.7,-3.925 ; 11.675,5.675 ccw(c12.249,4.399) 12.875,5.65 ; 12.825,-5.3 12.925,-5.2 ; 13.325,-5.775 13.425,-5.675 ; 14.6,-3.5 14.675,-3.425 ; 15.125,-4 15.2,-3.925 ; -14.2,-0.1 -14.2,8.1 14.2,8.1 14.2,-0.2 15.95,-0.2 15.95,-8.1 -12.45,-8.1 -12.45,-0.1 -14.2,-0.1
Mechanical 16:
  circle w0.102: c-12.25,4.4 r1.401
  circle w0.102: c-8.75,4.4 r1.401
  circle w0.102: c-5.25,4.4 r1.401
  circle w0.102: c-1.75,4.4 r1.401
  circle w0.102: c1.75,4.4 r1.401
  circle w0.102: c5.25,4.4 r1.401
  circle w0.102: c8.75,4.4 r1.401
  circle w0.102: c12.25,4.4 r1.401
  lines w0.102: -14.175,5.925 14.15,5.925 ; -14.175,6.4 14.15,6.4 ; -11.675,-5.3 -9.825,-3.425 ; -11.175,-5.775 -9.3,-3.925 ; -8.175,-5.3 -6.325,-3.425 ; -7.675,-5.775 -5.8,-3.925 ; -4.675,-5.3 -2.825,-3.425 ; -4.175,-5.775 -2.3,-3.925 ; -1.175,-5.3 0.675,-3.425 ; -0.675,-5.775 1.2,-3.925 ; 2.325,-5.3 4.175,-3.425 ; 2.825,-5.775 4.7,-3.925 ; 5.825,-5.3 7.675,-3.425 ; 6.325,-5.775 8.2,-3.925 ; 9.325,-5.3 11.175,-3.425 ; 9.825,-5.775 11.7,-3.925 ; 12.825,-5.3 14.675,-3.425 ; 13.325,-5.775 15.2,-3.925

## MKKDS1/9-3,5 [mm]
pads (18):
  round 2.2 hole 1.1: 1(-14,6.85) 2(-12.25,-4.55) 3(-10.5,6.85) 4(-8.75,-4.55) 5(-7,6.85) 6(-5.25,-4.55) 7(-3.5,6.85) 8(-1.75,-4.55) 9(0,6.85) 10(1.75,-4.55) 11(3.5,6.85) 12(5.25,-4.55) 13(7,6.85) 14(8.75,-4.55) 15(10.5,6.85) 16(12.25,-4.55) 17(14,6.85) 18(15.75,-4.55)
Top Overlay:
  circle w0.102: c-12.25,-4.6 r1.401
  circle w0.102: c-8.75,-4.6 r1.401
  circle w0.102: c-5.25,-4.6 r1.401
  circle w0.102: c-1.75,-4.6 r1.401
  circle w0.102: c1.75,-4.6 r1.401
  circle w0.102: c5.25,-4.6 r1.401
  circle w0.102: c8.75,-4.6 r1.401
  circle w0.102: c12.25,-4.6 r1.401
  circle w0.102: c15.75,-4.6 r1.401
  lines w0.102: -15.925,5.925 -14.925,5.925 ; -15.925,6.4 -15.225,6.4 ; -15.9,0.85 15.925,0.85 ; -15.9,1.15 15.925,1.15 ; -15.9,1.6 15.925,1.6 ; -15.9,2.4 15.925,2.4 ; -15.9,2.875 15.925,2.875 ; -15.175,3.7 -13.325,5.575 ; -14.675,3.225 -12.8,5.075 ; -14.575,5.675 ccw(c-14.001,4.398) -13.375,5.65 ; -14.15,-7.85 17.675,-7.85 ; -14.15,-7.425 17.675,-7.425 ; -14.15,-6.6 17.675,-6.6 ; -14.15,-6.125 17.675,-6.125 ; -13.425,-5.3 -13.325,-5.2 ; -13,5.925 -11.425,5.925 ; -12.925,-5.775 -12.825,-5.675 ; -12.75,6.4 -11.725,6.4 ; -11.675,3.7 -9.825,5.575 ; -11.65,-3.5 -11.575,-3.425 ; -11.175,3.225 -9.3,5.075 ; -11.125,-4 -11.05,-3.925 ; -11.075,5.675 ccw(c-10.501,4.399) -9.875,5.65 ; -9.925,-5.3 -9.825,-5.2 ; -9.5,5.925 -7.925,5.925 ; -9.425,-5.775 -9.325,-5.675 ; -9.25,6.4 -8.225,6.4 ; -8.175,3.7 -6.325,5.575 ; -8.15,-3.5 -8.075,-3.425 ; -7.675,3.225 -5.8,5.075 ; -7.625,-4 -7.55,-3.925 ; -7.575,5.675 ccw(c-7.001,4.398) -6.375,5.65 ; -6.425,-5.3 -6.325,-5.2 ; -6,5.925 -4.425,5.925 ; -5.925,-5.775 -5.825,-5.675 ; -5.75,6.4 -4.725,6.4 ; -4.675,3.7 -2.825,5.575 ; -4.65,-3.5 -4.575,-3.425 ; -4.175,3.225 -2.3,5.075 ; -4.125,-4 -4.05,-3.925 ; -4.075,5.675 ccw(c-3.501,4.399) -2.875,5.65 ; -2.925,-5.3 -2.825,-5.2 ; -2.5,5.925 -0.925,5.925 ; -2.425,-5.775 -2.325,-5.675 ; -2.25,6.4 -1.225,6.4 ; -1.175,3.7 0.675,5.575 ; -1.15,-3.5 -1.075,-3.425 ; -0.675,3.225 1.2,5.075 ; -0.625,-4 -0.55,-3.925 ; -0.575,5.675 ccw(c-0.001,4.398) 0.625,5.65 ; 0.575,-5.3 0.675,-5.2 ; 1,5.925 2.575,5.925 ; 1.075,-5.775 1.175,-5.675 ; 1.25,6.4 2.275,6.4 ; 2.325,3.7 4.175,5.575 ; 2.35,-3.5 2.425,-3.425 ; 2.825,3.225 4.7,5.075 ; 2.875,-4 2.95,-3.925 ; 2.925,5.675 ccw(c3.499,4.399) 4.125,5.65 ; 4.075,-5.3 4.175,-5.2 ; 4.5,5.925 6.075,5.925 ; 4.575,-5.775 4.675,-5.675 ; 4.75,6.4 5.775,6.4 ; 5.825,3.7 7.675,5.575 ; 5.85,-3.5 5.925,-3.425 ; 6.325,3.225 8.2,5.075 ; 6.375,-4 6.45,-3.925 ; 6.425,5.675 ccw(c6.999,4.398) 7.625,5.65 ; 7.575,-5.3 7.675,-5.2 ; 8,5.925 9.575,5.925 ; 8.075,-5.775 8.175,-5.675 ; 8.25,6.4 9.275,6.4 ; 9.325,3.7 11.175,5.575 ; 9.35,-3.5 9.425,-3.425 ; 9.825,3.225 11.7,5.075 ; 9.875,-4 9.95,-3.925 ; 9.925,5.675 ccw(c10.499,4.399) 11.125,5.65 ; 11.075,-5.3 11.175,-5.2 ; 11.5,5.925 13.075,5.925 ; 11.575,-5.775 11.675,-5.675 ; 11.75,6.4 12.775,6.4 ; 12.825,3.7 14.675,5.575 ; 12.85,-3.5 12.925,-3.425 ; 13.325,3.225 15.2,5.075 ; 13.375,-4 13.45,-3.925 ; 13.425,5.675 ccw(c13.999,4.398) 14.625,5.65 ; 14.575,-5.3 14.675,-5.2 ; 15.075,-5.775 15.175,-5.675 ; 16.35,-3.5 16.425,-3.425 ; 16.875,-4 16.95,-3.925 ; -15.95,-0.1 -15.95,8.1 15.95,8.1 15.95,-0.2 17.7,-0.2 17.7,-8.1 -14.2,-8.1 -14.2,-0.1 -15.95,-0.1
Mechanical 16:
  circle w0.102: c-14,4.4 r1.401
  circle w0.102: c-10.5,4.4 r1.401
  circle w0.102: c-7,4.4 r1.401
  circle w0.102: c-3.5,4.4 r1.401
  circle w0.102: c0,4.4 r1.401
  circle w0.102: c3.5,4.4 r1.401
  circle w0.102: c7,4.4 r1.401
  circle w0.102: c10.5,4.4 r1.401
  circle w0.102: c14,4.4 r1.401
  lines w0.102: -15.925,5.925 15.9,5.925 ; -15.925,6.4 15.9,6.4 ; -13.425,-5.3 -11.575,-3.425 ; -12.925,-5.775 -11.05,-3.925 ; -9.925,-5.3 -8.075,-3.425 ; -9.425,-5.775 -7.55,-3.925 ; -6.425,-5.3 -4.575,-3.425 ; -5.925,-5.775 -4.05,-3.925 ; -2.925,-5.3 -1.075,-3.425 ; -2.425,-5.775 -0.55,-3.925 ; 0.575,-5.3 2.425,-3.425 ; 1.075,-5.775 2.95,-3.925 ; 4.075,-5.3 5.925,-3.425 ; 4.575,-5.775 6.45,-3.925 ; 7.575,-5.3 9.425,-3.425 ; 8.075,-5.775 9.95,-3.925 ; 11.075,-5.3 12.925,-3.425 ; 11.575,-5.775 13.45,-3.925 ; 14.575,-5.3 16.425,-3.425 ; 15.075,-5.775 16.95,-3.925